# EAGLE library part MCP3424 (library haptic-inu)
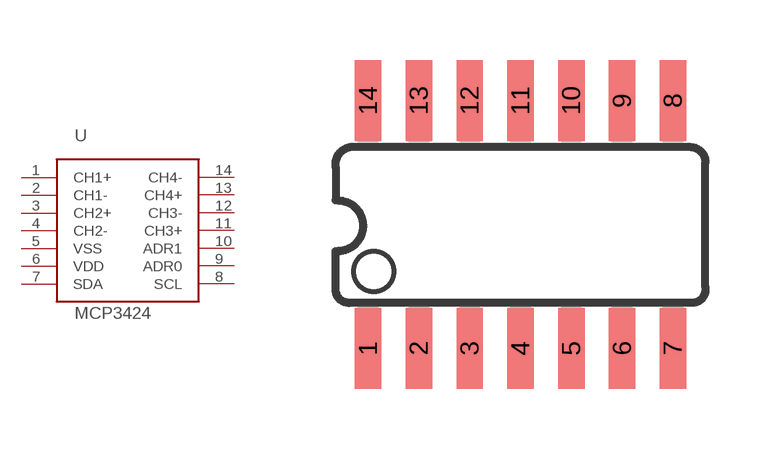
[diagram p5: symbol with the pads of 14-SOIC; footprint 14-SOIC]

Designator prefix U

## MCP3424SOIC-14  [14-SOIC]
1  CH1+
2  CH1-
3  CH2+
4  CH2-
5  VSS
6  VDD
7  SDA
8  SCL
9  ADR0
10  ADR1
11  CH3+
12  CH3-
13  CH4+
14  CH4-

## Footprint 14-SOIC (pad centres in mm)
smd 0.66 x 2.032: 1 -4.445,-3.09; 2 -3.175,-3.09; 3 -1.905,-3.09; 4 -0.635,-3.09; 5 0.635,-3.09; 6 1.905,-3.09; 7 3.175,-3.09; 8 3.175,3.111; 9 1.905,3.111; 10 0.635,3.111; 11 -0.635,3.111; 12 -1.905,3.111; 13 -3.175,3.111; 14 -4.445,3.111